# Altium schematic symbol library cp2102_gm.SchLib: 1 symbol
Pins are listed as number, name and electrical type; pins without a type are passive.

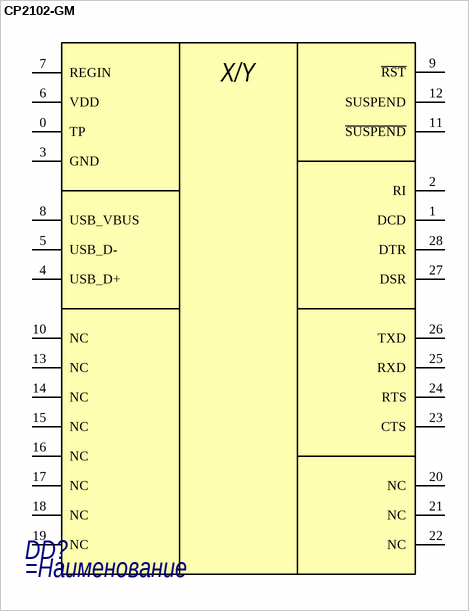
[diagram p0: symbol CP2102-GM]

## CP2102-GM
designator DD?
=Описание
pins: 0 TP, 1 DCD, 2 RI, 3 GND, 4 USB_D+, 5 USB_D-, 6 VDD, 7 REGIN, 8 USB_VBUS, 9 ~{RST}, 10 NC, 11 ~{SUSPEND}, 12 SUSPEND, 13 NC, 14 NC, 15 NC, 16 NC, 17 NC, 18 NC, 19 NC, 20 NC, 21 NC, 22 NC, 23 CTS, 24 RTS, 25 RXD, 26 TXD, 27 DSR, 28 DTR
text: X/Y